# Altium schematic symbol library NFC_ANTENNA.SchLib: 1 symbol
Pins are listed as number, name and electrical type; pins without a type are passive.

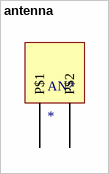
[diagram p0: symbol antenna]

## antenna
designator AN?
footprint NFC_Antenna
pins: P$1, P$2